# EAGLE library part EVBJQ (library Panasonic-Trimmer_Potentiometers)
Thin type Faders for Audio Mixers Slide Potentiometers
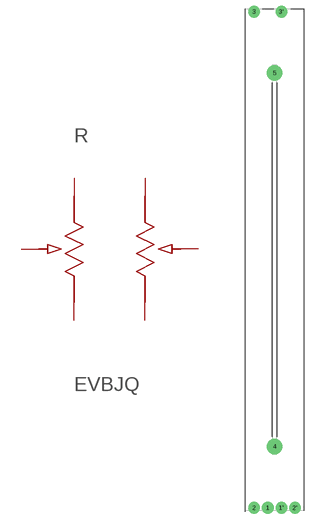
[diagram p0: symbol with the pads of POT_EVBJQ; footprint POT_EVBJQ]

Designator prefix R

## EVBJQKR15A14 (MPN: EVBJQKR15A14; OC_FARNELL: 8795975; OC_NEWARK: 18K6214; PACKAGE: TH-POTENTIOMETER, SLIDE; SUPPLIER: PANASONIC; VALUE: 10K)  [POT_EVBJQ]
1  1  pas
1'  1'  pas
2  2  pas
2'  2'  pas
3  3  pas
3'  3'  pas

## Footprint POT_EVBJQ (pad centres in mm)
drill 1.6 pad 3: 1 -1.75,-63.75; 1' 1.75,-63.75; 2 -5.25,-63.75; 2' 5.25,-63.75; 3 -5.25,63.75; 3' 1.75,63.75
drill 2 pad 4: 4 0,-48; 5 0,48